# Altium footprint library SOIC127P599X175-8N.PcbLib: 1 footprints
Each footprint in its own frame and in the unit in brackets; x right, y up, seen from the top. Pads: shape width x height; smd on the part's side, far side on the other; paste and mask are expansions set on the pad; w line width, h text height; cw(c..) or ccw(c..) is an arc to the next point about the centre after c.
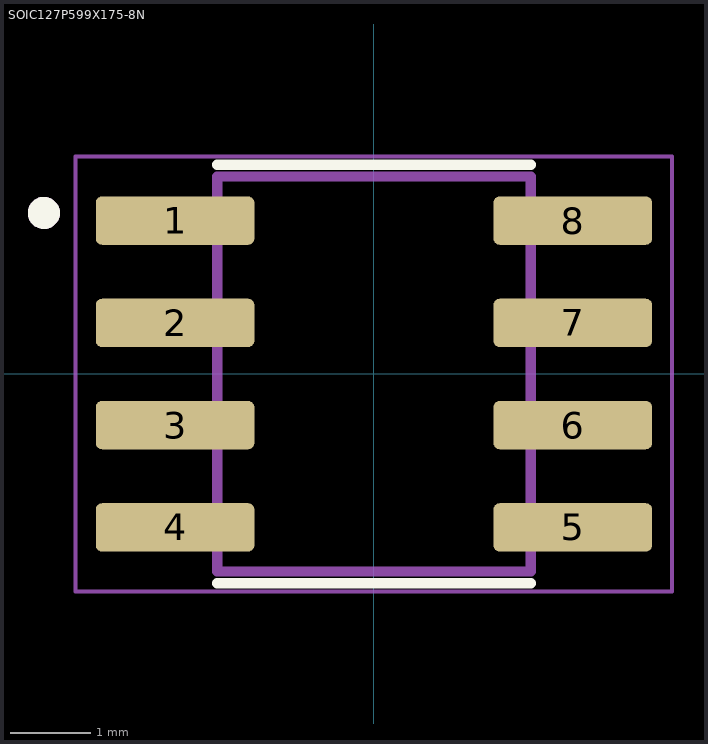
[diagram p0: the footprint, top view; thin cyan lines are the x and y axes]

## SOIC127P599X175-8N [mm]
height 1.75
pads (8):
  rrect25% 1.97x0.6 smd paste+0 mask+0.102: 1(-2.47,1.905) 2(-2.47,0.635) 3(-2.47,-0.635) 4(-2.47,-1.905) 5(2.47,-1.905) 6(2.47,-0.635) 7(2.47,0.635) 8(2.47,1.905)
Top Overlay:
  circle w0.2: c-4.1,2 r0.1
  lines w0.127: -1.947,-2.6 1.947,-2.6 ; -1.947,2.6 1.947,2.6
Assembly Top:
  circle w0.2: c-4.1,2 r0.1
  lines w0.127: -1.947,-2.452 -1.947,2.452 1.947,2.452 1.947,-2.452 -1.947,-2.452
Courtyard Top:
  lines w0.05: -3.705,-2.702 -3.705,2.702 3.705,2.702 3.705,-2.702 -3.705,-2.702
3D body "step_temp.STEP": height 1.75, standoff 0, extent -2.995,-2.452 2.995,2.452